# Altium footprint library PCB Library.PcbLib: 45 footprints (part 2 of 3)
Each footprint in its own frame and in the unit in brackets; x right, y up, seen from the top. Pads: shape width x height; smd on the part's side, far side on the other; paste and mask are expansions set on the pad; w line width, h text height; cw(c..) or ccw(c..) is an arc to the next point about the centre after c.
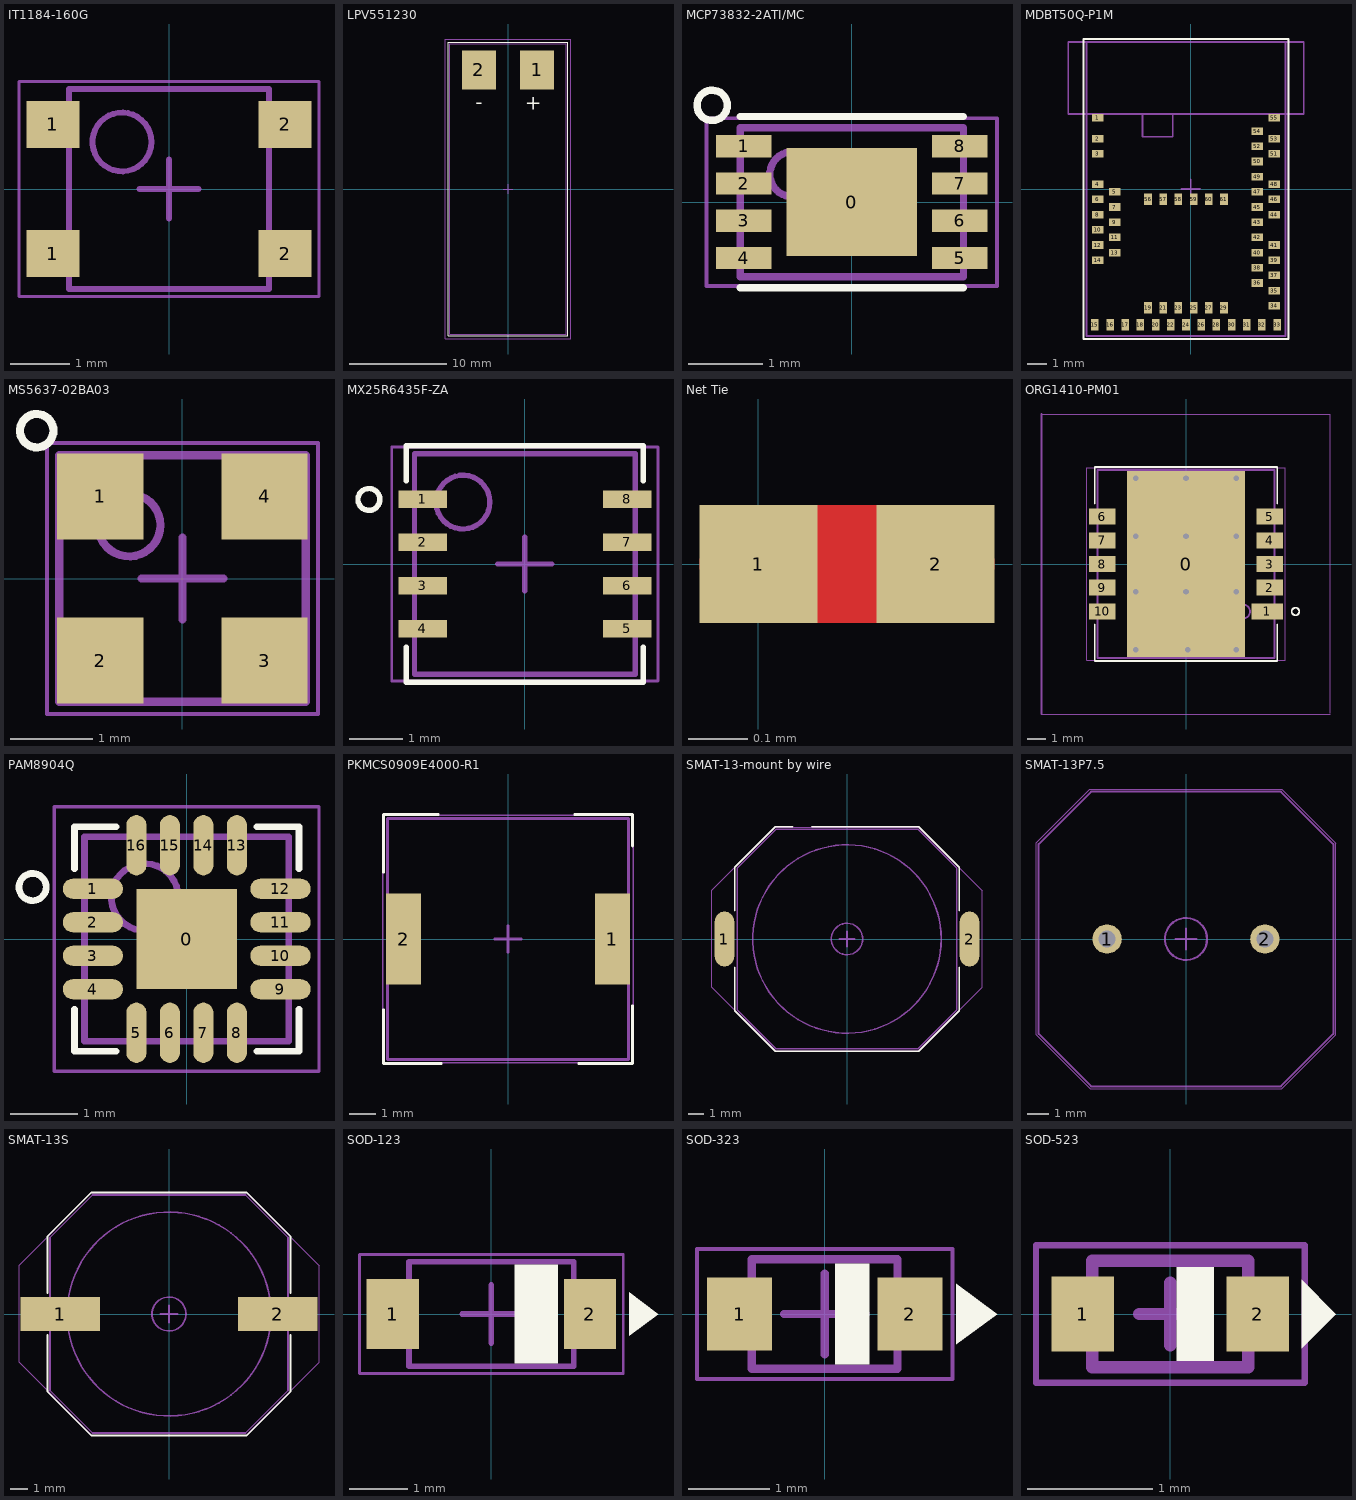
[diagram p1: the footprints below, top view; thin cyan lines are the x and y axes]

## IT1184-160G [mm] "Tact switch"
pads (4):
  rect 0.9x0.8 smd mask+0.05: 1(-1.975,-1.1) 1(-1.975,1.1) 2(1.975,-1.1) 2(1.975,1.1)
Mechanical 13:
  circle w0.1: c-0.8,0.8 r0.5
  lines w0.1: -1.7,-1.7 1.7,-1.7 1.7,1.7 -1.7,1.7 -1.7,-1.7
Mechanical 15:
  lines w0.05: -2.55,-1.825 2.55,-1.825 2.55,1.825 -2.55,1.825 -2.55,-1.825
  lines w0.1: -0.5,0 0.5,0 ; 0,-0.5 0,0.5
3D body: height 1.5, standoff 0.1, extent -1.7,-1.7 1.7,1.7

## LPV551230 [mm] "LiPo accumulator"
height 55
pads (2):
  rect 3.5x4 smd: 1(3,12.3) 2(-3,12.3)
Top Overlay:
  lines w0.1: -6.15,-15.15 -5.85,-15.15 6.15,-15.15 6.15,-3.8 6.15,15.15 -6.15,15.15 -6.15,-15.15
  text "+" at 3.5,8.2 h1.5
  text "-" at -2.6,8.3 h1.5
Mechanical 13:
  lines w0.1: -6,-15 6,-15 6,15 -6,15 -6,-15
Mechanical 15:
  lines w0.05: -6.5,-15.5 -6.5,15.5 6.5,15.5 6.5,-15.5 -6.5,-15.5
  lines w0.1: -0.5,0 0.5,0 ; 0,-0.5 0,0.5
3D body: height 6.35, standoff 0.85, extent -6,-15 6,15

## MCP73832-2ATI/MC [mm]
height 1
pads (9):
  rect 1.75x1.45 smd mask+0.05: 0(0,0)
  rect 0.75x0.3 smd mask+0.05: 1(-1.45,0.75) 2(-1.45,0.25) 3(-1.45,-0.25) 4(-1.45,-0.75) 5(1.45,-0.75) 6(1.45,-0.25) 7(1.45,0.25) 8(1.45,0.75)
Top Overlay:
  circle w0.1: c-1.875,1.3 r0.203
  lines w0.1: -1.5,-1.15 1.5,-1.15 ; -1.5,1.15 1.5,1.15
Mechanical 13:
  circle w0.1: c-0.8,0.375 r0.3
  lines w0.1: -1.5,-1 -1.5,1 1.5,1 1.5,-1 -1.5,-1
Mechanical 15:
  lines w0.05: -1.95,-1.125 -1.95,1.125 1.95,1.125 1.95,-1.125 -1.95,-1.125
  lines w0.1: -0.5,0 0.5,0 ; 0,-0.5 0,0.5
3D body: height 1, standoff 0, extent -1.5,-1 1.5,1

## MDBT50Q-P1M [mm] "Bluetooth 5.0 module"
height 2
pads (61):
  rect 0.6x0.4 smd mask+0.05: 1(-4.9,3.75) 2(-4.9,2.65) 3(-4.9,1.85) 4(-4.9,0.25) 5(-4,-0.15) 6(-4.9,-0.55) 7(-4,-0.95) 8(-4.9,-1.35) 9(-4,-1.75) 10(-4.9,-2.15) 11(-4,-2.55) 12(-4.9,-2.95) 13(-4,-3.35) 14(-4.9,-3.75) 34(4.4,-6.15) 35(4.4,-5.35) 36(3.5,-4.95) 37(4.4,-4.55) 38(3.5,-4.15) 39(4.4,-3.75) 40(3.5,-3.35) 41(4.4,-2.95) 42(3.5,-2.55) 43(3.5,-1.75) 44(4.4,-1.35) 45(3.5,-0.95) 46(4.4,-0.55) 47(3.5,-0.15) 48(4.4,0.25) 49(3.5,0.65) 50(3.5,1.45) 51(4.4,1.85) 52(3.5,2.25) 53(4.4,2.65) 54(3.5,3.05) 55(4.4,3.75)
  rect 0.4x0.6 smd mask+0.05: 15(-5.05,-7.15) 16(-4.25,-7.15) 17(-3.45,-7.15) 18(-2.65,-7.15) 19(-2.25,-6.25) 20(-1.85,-7.15) 21(-1.45,-6.25) 22(-1.05,-7.15) 23(-0.65,-6.25) 24(-0.25,-7.15) 25(0.15,-6.25) 26(0.55,-7.15) 27(0.95,-6.25) 28(1.35,-7.15) 29(1.75,-6.25) 30(2.15,-7.15) 31(2.95,-7.15) 32(3.75,-7.15) 33(4.55,-7.15) 56(-2.25,-0.55) 57(-1.45,-0.55) 58(-0.65,-0.55) 59(0.15,-0.55) 60(0.95,-0.55) 61(1.75,-0.55)
Top Overlay:
  lines w0.1: -5.65,-7.9 5.15,-7.9 5.15,7.9 -5.65,7.9 -5.65,-7.9
Mechanical 13:
  lines w0.1: -5.5,-7.75 5,-7.75 5,7.75 -5.5,7.75 -5.5,-7.75
Mechanical 15:
  lines w0.05: -5.625,-7.875 -5.625,7.875 5.125,7.875 5.125,-7.875 -5.625,-7.875
  lines w0.1: -2.55,3.95 -2.55,2.75 -0.95,2.75 -0.95,3.95 ; -0.5,0 0.5,0 ; 0,-0.5 0,0.5 ; -6.45,3.95 -6.45,7.75 5.95,7.75 5.95,3.95 -6.45,3.95
3D body: height 2, standoff 0, extent -5.5,-7.75 5,7.7

## MS5637-02BA03 [mm] "Barometer"
height 0.9
pads (4):
  rect 1.05x1.05 smd mask+0.05: 1(-1,1) 2(-1,-1) 3(1,-1) 4(1,1)
Top Overlay:
  circle w0.1: c-1.775,1.8 r0.203
Mechanical 13:
  circle w0.1: c-0.65,0.65 r0.381
  lines w0.1: -1.5,-1.5 -1.5,1.5 1.5,1.5 1.5,-1.5 -1.5,-1.5
Mechanical 15:
  lines w0.05: -1.65,-1.65 -1.65,1.65 1.65,1.65 1.65,-1.65 -1.65,-1.65
  lines w0.1: -0.5,0 0.5,0 ; 0,-0.5 0,0.5
3D body: height 0.9, standoff 0, extent -1.5,-1.5 1.5,1.5

## MX25R6435F-ZA [mm] "64 MB Flash"
height 0.6
pads (8):
  rect 0.9x0.325 smd mask+0.05: 1(-1.9,1.2) 2(-1.9,0.4) 3(-1.9,-0.4) 4(-1.9,-1.2) 5(1.9,-1.2) 6(1.9,-0.4) 7(1.9,0.4) 8(1.9,1.2)
Top Overlay:
  circle w0.1: c-2.897,1.2 r0.203
  lines w0.1: -2.2,-1.55 -2.2,-2.2 2.2,-2.2 2.2,-1.55 ; -2.2,1.55 -2.2,2.2 2.2,2.2 2.2,1.55
Mechanical 13:
  circle w0.1: c-1.15,1.15 r0.5
  lines w0.1: -2.05,-2.05 -2.05,2.05 2.05,2.05 2.05,-2.05 -2.05,-2.05
Mechanical 15:
  lines w0.05: -2.475,-2.175 -2.475,2.175 2.475,2.175 2.475,-2.175 -2.475,-2.175
  lines w0.1: -0.5,0 0.5,0 ; 0,-0.5 0,0.5
3D body: height 0.6, standoff 0.04, extent -2.05,-2.05 2.05,2.05

## Net Tie [mm] "Nothing but a logical connection between two nets"
pads (2):
  rect 0.2x0.2 smd: 1(0,0) 2(0.3,0)
Top Layer:
  lines w0.2: 0,0 0.3,0

## ORG1410-PM01 [mm] "GPS module"
height 3.8
pads (11):
  rect 6.35x10.008 smd: 0(0,0)
  rect 1.676x0.864 smd mask+0.05: 1(4.359,-2.54)
  rect 1.422x0.864 smd mask+0.05: 2(4.486,-1.27) 3(4.486,0) 4(4.486,1.27) 5(4.486,2.54) 6(-4.486,2.54) 7(-4.486,1.27) 8(-4.486,0) 9(-4.486,-1.27) 10(-4.486,-2.54)
via 2.7,4.6 diameter 0.6 hole 0.3
via -2.7,1.5 diameter 0.6 hole 0.3
via -2.7,-1.5 diameter 0.6 hole 0.3
via 0,-1.5 diameter 0.6 hole 0.3
via 0,1.5 diameter 0.6 hole 0.3
via 2.7,-1.5 diameter 0.6 hole 0.3
via 2.7,1.5 diameter 0.6 hole 0.3
via -2.7,-4.6 diameter 0.6 hole 0.3
via 0.1,-4.6 diameter 0.6 hole 0.3
via 2.7,-4.6 diameter 0.6 hole 0.3
via 0,4.6 diameter 0.6 hole 0.3
via -2.7,4.6 diameter 0.6 hole 0.3
Top Overlay:
  circle w0.1: c5.875,-2.55 r0.203
  lines w0.1: -4.9,-3.25 -4.9,-5.2 4.9,-5.2 4.9,-3.25 ; -4.9,3.25 -4.9,5.2 4.9,5.2 4.9,3.25
Mechanical 13:
  circle w0.1: c3.05,-2.55 r0.381
  lines w0.1: -4.75,-5.05 4.75,-5.05 4.75,-2.883 cw(c4.75,-2.54) 4.75,-2.197 4.75,-1.613 cw(c4.75,-1.27) 4.75,-0.927 4.75,-0.343 cw(c4.75,0) 4.75,0.343 4.75,0.927 cw(c4.75,1.27) 4.75,1.613 4.75,2.197 cw(c4.75,2.54) 4.75,2.883 4.75,5.05 -4.75,5.05 -4.75,2.883 cw(c-4.75,2.54) -4.75,2.197 -4.75,1.613 cw(c-4.75,1.27) -4.75,0.927 -4.75,0.343 cw(c-4.75,0) -4.75,-0.343 -4.75,-0.927 cw(c-4.75,-1.27) -4.75,-1.613 -4.75,-2.197 cw(c-4.75,-2.54) -4.75,-2.883 -4.75,-5.05
Mechanical 15:
  lines w0.05: -7.75,-8.05 7.75,-8.05 ; -7.75,8.05 7.75,8.05 7.75,-8 ; -5.325,-5.175 5.325,-5.175 5.325,5.175 -5.325,5.175 -5.325,-5.175
  lines w0.1: -7.75,-8.05 -7.75,8.05 ; -0.5,0 0.5,0 ; 0,-0.5 0,0.5
3D body: height 5.8, standoff 0, extent -4.75,-5.05 4.75,5.05

## PAM8904Q [mm] "Piezo amplifier"
pads (17):
  rect 1.5x1.5 smd mask+0.05: 0(0,0)
  oval 0.9x0.3 smd mask+0.05: 1(-1.4,0.75) 2(-1.4,0.25) 3(-1.4,-0.25) 4(-1.4,-0.75) 9(1.4,-0.75) 10(1.4,-0.25) 11(1.4,0.25) 12(1.4,0.75)
  oval 0.3x0.9 smd mask+0.05: 5(-0.75,-1.4) 6(-0.25,-1.4) 7(0.25,-1.4) 8(0.75,-1.4) 13(0.75,1.4) 14(0.25,1.4) 15(-0.25,1.4) 16(-0.75,1.4)
Top Overlay:
  circle w0.1: c-2.3,0.775 r0.203
  lines w0.1: -1.675,-1.05 -1.675,-1.675 -1.05,-1.675 ; -1.675,1.05 -1.675,1.675 -1.05,1.675 ; 1.05,-1.675 1.675,-1.675 1.675,-1.05 ; 1.05,1.675 1.675,1.675 1.675,1.05
Mechanical 13:
  circle w0.1: c-0.625,0.625 r0.5
  lines w0.1: -1.525,-1.525 1.525,-1.525 1.525,1.525 -1.525,1.525 -1.525,-1.525
Mechanical 15:
  lines w0.05: -1.975,-1.975 1.975,-1.975 1.975,1.975 -1.975,1.975 -1.975,-1.975
  lines w0.1: -0.5,0 0.5,0 ; 0,-0.5 0,0.5
3D body: height 0.65, standoff 0, extent -1.525,-1.525 1.525,1.525

## PKMCS0909E4000-R1 [mm] "Piezo transducer"
height 1.9
pads (2):
  rect 1.3x3.4 smd mask+0.05: 1(3.9,0) 2(-3.9,0)
Top Overlay:
  lines w0.1: -4.65,-2.643 -4.65,-4.65 -2.491,-4.65 ; -4.65,2.491 -4.65,4.65 -2.6,4.65 ; 2.491,4.65 4.65,4.65 4.65,3.475 ; 2.643,-4.65 4.65,-4.65 4.65,-2.491
Mechanical 13:
  lines w0.1: -4.5,-4.5 4.5,-4.5 4.5,4.5 -4.5,4.5 -4.5,-4.5
Mechanical 15:
  lines w0.05: -4.675,-4.625 -4.675,4.625 4.675,4.625 4.675,-4.625 -4.675,-4.625
  lines w0.1: -0.5,0 0.5,0 ; 0,-0.5 0,0.5
3D body: height 1.9, standoff 0, extent -4.5,-4.5 4.5,4.5

## SMAT-13-mount by wire [mm] "Piezo transducer"
height 6.5
pads (2):
  oval 1.25x3.5 smd mask+0.05: 1(-7.8,0) 2(7.8,0)
Top Overlay:
  lines w0.1: -7.15,-1.8 -7.15,-4.475 -7.15,-4.575 -4.575,-7.15 4.575,-7.15 7.15,-4.575 7.15,-1.8 ; -7.15,1.8 -7.15,4.575 -4.575,7.15 ; -4.375,7.15 -4.575,7.15 ; -3.45,7.15 -4.575,7.15 ; -2.25,7.15 4.575,7.15 7.15,4.575 7.15,1.8
Mechanical 13:
  circle w0.1: c0,0 r1
  circle w0.1: c0,0 r6
  lines w0.1: -7,-4.5 -4.5,-7 4.5,-7 7,-4.5 7,4.5 4.5,7 -4.5,7 -7,4.5 -7,-4.5
Mechanical 15:
  lines w0.05: -8.6,-3.075 -8.6,3.1 -4.575,7.125 4.55,7.125 8.6,3.075 8.6,-3.075 4.55,-7.125 -4.55,-7.125 -8.6,-3.075
  lines w0.1: -0.5,0 0.5,0 ; 0,-0.5 0,0.5
3D body: height 6.5, standoff 0.5, extent -7,-7 7,7

## SMAT-13P7.5 [mm] "Piezo transducer"
height 6
pads (2):
  round 1.4 hole 0.8 mask+0.35: 1(-3.75,0) 2(3.75,0)
Mechanical 13:
  circle w0.1: c0,0 r1
  lines w0.1: -7,-4.5 -7,4.5 -4.5,7 4.5,7 7,4.5 7,-4.5 4.5,-7 -4.5,-7 -7,-4.5
Mechanical 15:
  lines w0.05: -7.125,-4.55 -4.55,-7.125 4.55,-7.125 7.125,-4.55 7.125,4.55 4.55,7.125 -4.575,7.125 -7.125,4.575 -7.125,-4.55
  lines w0.1: -0.5,0 0.5,0 ; 0,-0.5 0,0.5
3D body: height 6, standoff 0, extent -7,-7 7,7

## SMAT-13S [mm] "Piezo transducer"
height 6.5
pads (2):
  rect 4.7x2 smd mask+0.05: 1(-6.4,0) 2(6.4,0)
Top Overlay:
  lines w0.1: -7.15,-1.225 -7.15,-4.475 -7.15,-4.575 -4.575,-7.15 4.575,-7.15 7.15,-4.575 7.15,-1.225 ; -7.15,1.225 -7.15,4.575 -4.575,7.15 -4.375,7.15 4.575,7.15 7.15,4.575 7.15,1.225
Mechanical 13:
  circle w0.1: c0,0 r6
  circle w0.1: c0,0 r1
  lines w0.1: -7,-4.5 -7,4.5 -4.5,7 4.5,7 7,4.5 7,-4.5 4.5,-7 -4.5,-7 -7,-4.5
Mechanical 15:
  lines w0.05: -8.825,-2.85 -4.55,-7.125 4.55,-7.125 8.825,-2.85 8.825,2.85 4.55,7.125 -4.575,7.125 -8.825,2.875 -8.825,-2.85
  lines w0.1: -0.5,0 0.5,0 ; 0,-0.5 0,0.5
3D body: height 6.5, standoff 0.5, extent -7,-7 7,7

## SOD-123 [mm] "Standard SMD component"
height 1.35
pads (2):
  rect 0.9x1.2 smd mask+0.05: 1(-1.7,0) 2(1.7,0)
Top Overlay:
  rectangle: 0.4,-0.85 1.15,0.85
  region: 2.375,0.375 2.375,-0.375 2.875,0
Mechanical 13:
  lines w0.1: -1.42,-0.9 1.42,-0.9 1.42,0.9 -1.42,0.9 -1.42,-0.9
Mechanical 15:
  lines w0.05: -2.275,-1.025 2.275,-1.025 2.275,1.025 -2.275,1.025 -2.275,-1.025
  lines w0.1: -0.5,0 0.5,0 ; 0,-0.5 0,0.5
3D body: height 1.35, standoff 0, extent -1.42,-0.9 0.76,0.9
3D body: height 1.35, standoff 0, extent 0.75,-0.9 1.42,0.9

## SOD-323 [mm] "Standard SMD component"
height 0.9
pads (2):
  rect 0.8x0.9 smd mask+0.05: 1(-1.05,0) 2(1.05,0)
Top Overlay:
  rectangle: 0.125,-0.625 0.55,0.625
  region: 1.625,0.375 1.625,-0.375 2.125,0
Mechanical 13:
  lines w0.1: -0.9,-0.675 0.9,-0.675 0.9,0.675 -0.9,0.675 -0.9,-0.675
Mechanical 15:
  lines w0.05: -1.575,-0.8 -1.575,0.8 1.575,0.8 1.575,-0.8 -1.575,-0.8
  lines w0.1: -0.5,0 0.5,0 ; 0,-0.5 0,0.5
3D body: height 0.9, standoff 0, extent 0.375,-0.675 0.9,0.675
3D body: height 0.9, standoff 0, extent -0.9,-0.675 0.375,0.675

## SOD-523 [mm] "Standard SMD component"
height 0.65
pads (2):
  rect 0.5x0.6 smd mask+0.05: 1(-0.7,0) 2(0.7,0)
Top Overlay:
  rectangle: 0.05,-0.375 0.35,0.375
  region: 1.05,0.275 1.05,-0.275 1.325,0
Mechanical 13:
  lines w0.1: -0.625,-0.425 0.625,-0.425 0.625,0.425 -0.625,0.425 -0.625,-0.425
Mechanical 15:
  lines w0.05: -1.075,-0.55 1.075,-0.55 1.075,0.55 -1.075,0.55 -1.075,-0.55
  lines w0.1: -0.25,0 0.25,0 ; 0,-0.25 0,0.25
3D body: height 0.65, standoff 0, extent -0.625,-0.425 0.29,0.425
3D body: height 0.65, standoff 0, extent 0.29,-0.425 0.625,0.425